# Altium footprint library Spectro.PcbLib: 37 footprints (part 2 of 3)
Each footprint in its own frame and in the unit in brackets; x right, y up, seen from the top. Pads: shape width x height; smd on the part's side, far side on the other; paste and mask are expansions set on the pad; w line width, h text height; cw(c..) or ccw(c..) is an arc to the next point about the centre after c.
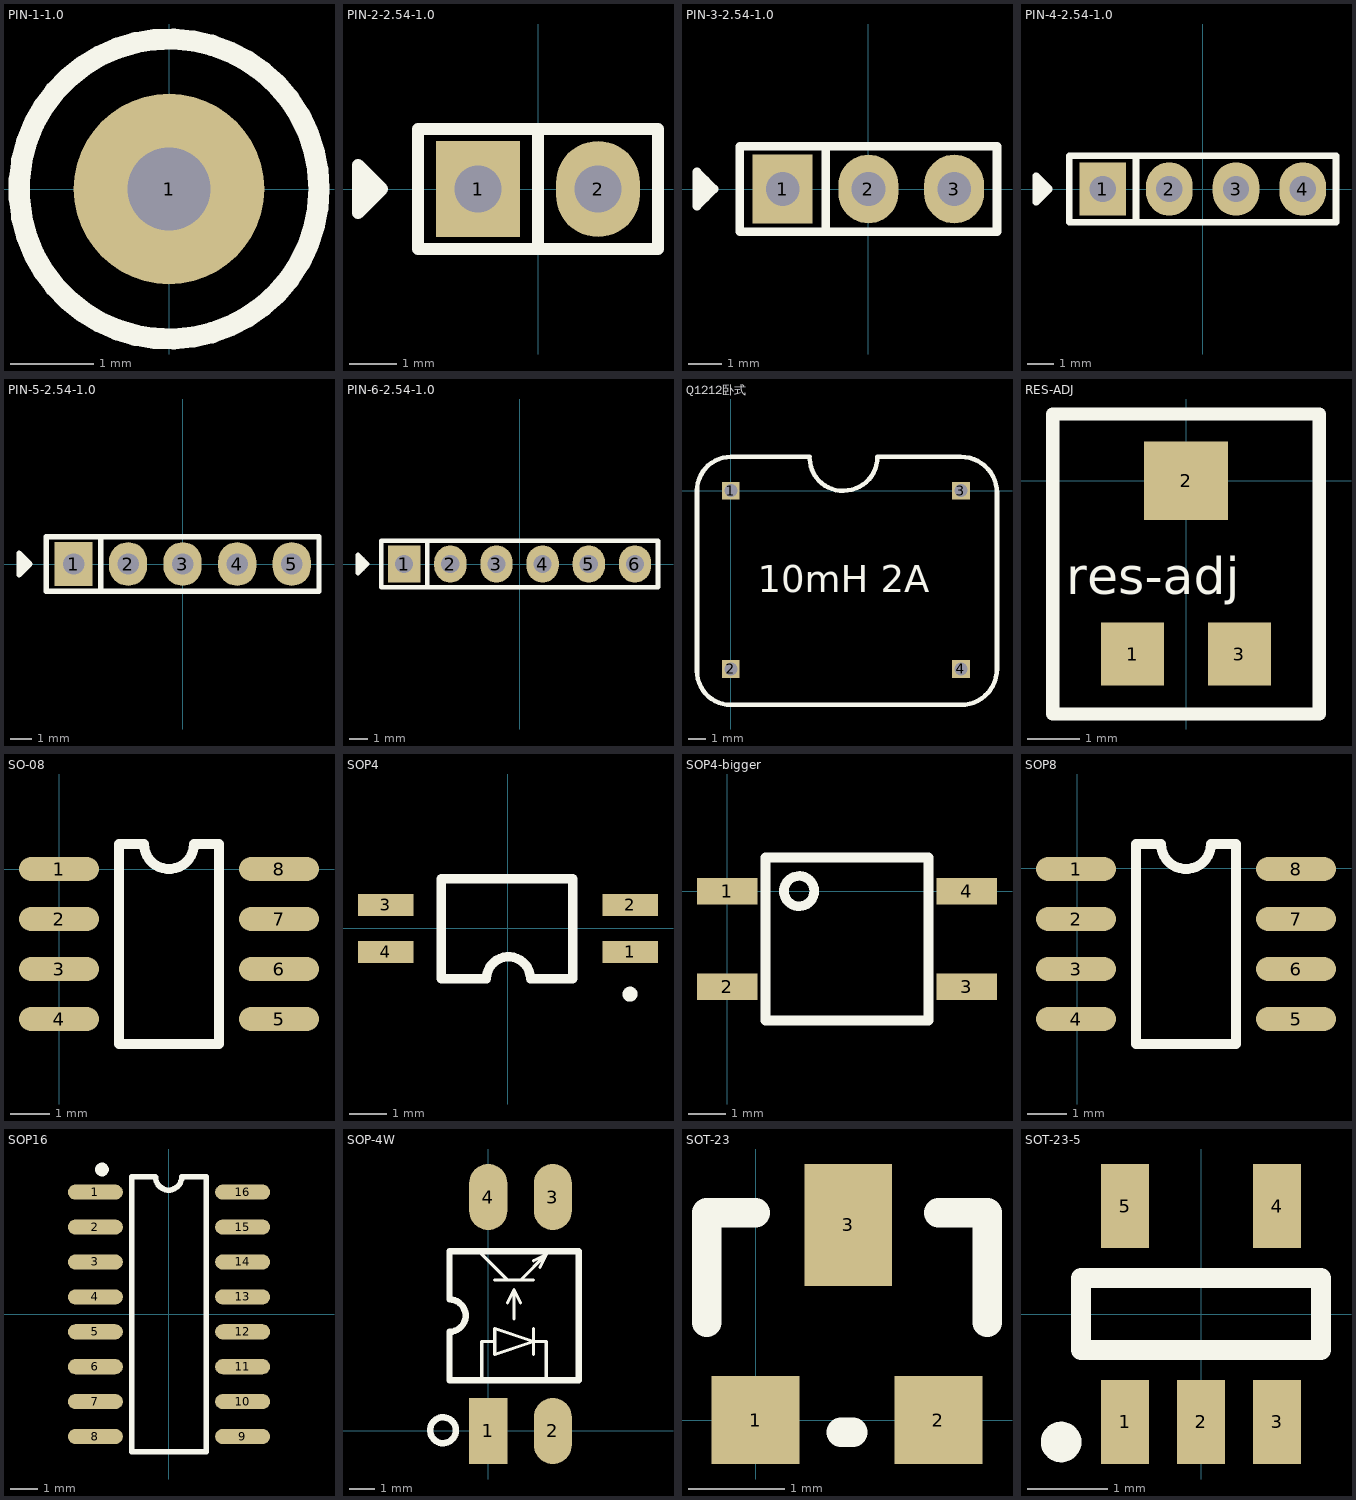
[diagram p1: the footprints below, top view; thin cyan lines are the x and y axes]

## PIN-1-1.0 [mil] "Pin Header"
height 374.02
pads (1):
  round 90 hole 39.37: 1(0,0)
Top Overlay:
  circle w10: c0,0 r70.87
3D body "PIN1.STEP": height 397.64, standoff -59.06, extent -50,-50 50,50

## PIN-2-2.54-1.0 [mil] "Pin Header"
height 374.02
pads (2):
  rect 70x80 hole 39.37: 1(-50,0)
  oval 70x80 hole 39.37: 2(50,0)
Top Overlay:
  lines w10: -140,-10 -140,10 ; 0,-50 0,50 ; -150,-20 -130,0 -150,20 -150,-20 ; -100,-50 100,-50 100,50 -100,50 -100,-50
3D body "PIN2_100mils.STEP": height 397.64, standoff -59.06, extent -100,-50 100,50

## PIN-3-2.54-1.0 [mil] "Pin Header"
height 374.02
pads (3):
  rect 70x80 hole 39.37: 1(-100,0)
  oval 70x80 hole 39.37: 2(0,0) 3(100,0)
Top Overlay:
  lines w10: -190,-10 -190,10 ; -50,-50 -50,50 ; -200,-20 -200,20 -180,0 -200,-20 ; -150,-50 150,-50 150,50 -150,50 -150,-50
3D body "PIN3_100mils.STEP": height 397.64, standoff -59.06, extent -150,-50 150,50

## PIN-4-2.54-1.0 [mil] "Pin Header"
height 374.02
pads (4):
  rect 70x80 hole 39.37: 1(-150,0)
  oval 70x80 hole 39.37: 2(-50,0) 3(50,0) 4(150,0)
Top Overlay:
  lines w10: -240,-10 -240,10 ; -100,-50 -100,50 ; -250,-20 -230,0 -250,20 -250,-20 ; -200,-50 200,-50 200,50 -200,50 -200,-50
3D body "PIN4_100mils.STEP": height 397.64, standoff -59.06, extent -200,-50 200,50

## PIN-5-2.54-1.0 [mil] "Pin Header"
height 374.02
pads (5):
  rect 70x80 hole 39.37: 1(-200,0)
  oval 70x80 hole 39.37: 2(-100,0) 3(0,0) 4(100,0) 5(200,0)
Top Overlay:
  lines w10: -290,-10 -290,10 ; -150,-50 -150,50 ; -300,-20 -280,0 -300,20 -300,-20 ; -250,-50 -250,50 250,50 250,-50 -250,-50
3D body "PIN5_100mils.STEP": height 397.64, standoff -59.06, extent -250,-50 250,50

## PIN-6-2.54-1.0 [mil] "Pin Header"
height 374.02
pads (6):
  rect 70x80 hole 39.37: 1(-250,0)
  oval 70x80 hole 39.37: 2(-150,0) 3(-50,0) 4(50,0) 5(150,0) 6(250,0)
Top Overlay:
  lines w10: -340,-10 -340,10 ; -200,-50 -200,50 ; -350,-20 -350,20 -330,0 -350,-20 ; -300,-50 -300,50 300,50 300,-50 -300,-50
3D body "PIN6_100mils.STEP": height 397.64, standoff -59.06, extent -300,-50 300,50

## Q1212卧式 [mm] "电感10mH 2A"
height 11
pads (4):
  rect 1x1 hole 0.73 square: 1(0,0) 2(0,-10.033) 3(12.954,0) 4(12.954,-10.033)
Top Overlay:
  lines w0.254: 4.445,1.778 ccw(c6.286,1.841) 6.35,0 ccw(c6.35,1.905) 8.255,1.905 12.954,1.905 cw(c12.954,-0.127) 14.986,-0.127 14.986,-10.033 cw(c12.954,-10.033) 12.954,-12.065 0,-12.065 cw(c0,-10.16) -1.905,-10.16 -1.905,0 cw(c0,0) 0,1.905 4.445,1.905
  text "10mH 2A" at 1.524,-5.715 h1.52

## RES-ADJ [mm]
pads (3):
  rect 1.2x1.2 smd: 1(-1.016,-3.302) 3(1.016,-3.302)
  rect 1.6x1.5 smd: 2(0,0)
Top Overlay:
  lines w0.254: -2.54,-4.445 -2.54,1.27 2.54,1.27 2.54,-4.445 -2.54,-4.445
  text "res-adj" at -2.286,-2.159 h0.7

## SO-08 [mil]
pads (8):
  oval 80x24 smd: 1(0,0) 2(0,-50) 3(0,-100) 4(0,-150) 5(220,-150) 6(220,-100) 7(220,-50) 8(220,0)
Top Overlay:
  lines w10: 60,-175 60,25 85,25 ccw(c110,25) 135,25 160,25 160,-175 60,-175

## SOP4 [mm] "间距1.27mm     封装库来自淘宝卖家 ID：黄晶宝石"
pads (4):
  rect 1.5x0.6 smd: 1(3.31,-0.635) 2(3.31,0.635) 3(-3.309,0.635) 4(-3.309,-0.635)
Top Overlay:
  circle w0.203: c3.302,-1.778 r0.102
  lines w0.254: -1.805,-1.361 -1.805,1.346 ; -1.794,-1.361 -0.582,-1.361 cw(c0.013,-1.361) 0.608,-1.361 1.751,-1.361 1.751,1.346 -1.786,1.346
3D body "SOP-4-1.STEP": height 2.1, standoff 0, extent -3.5,-1.4 3.5,1.4

## SOP4-bigger [mm] "EL357"
height 2.6
pads (4):
  rect 1.6x0.7 smd: 1(0,0) 2(0,-2.54) 3(6.35,-2.54) 4(6.35,0)
Top Overlay:
  circle w0.254: c1.905,0 r0.402
  lines w0.254: 1.016,-3.429 5.334,-3.429 5.334,0.889 1.016,0.889 1.016,-1.27 1.016,-3.429

## SOP8 [mil] "封装库来自淘宝卖家 ID：黄晶宝石"
pads (8):
  oval 80x24 smd: 1(-1,-1) 2(-1,-51) 3(-1,-101) 4(-1,-151) 5(219,-151) 6(219,-101) 7(219,-51) 8(219,-1)
Top Overlay:
  lines w10: 59,-176 159,-176 159,24 134,24 cw(c109,24) 84,24 59,24 59,-176
3D body "SOP8.STEP": height 62.99, standoff 0, extent -3.93,-173.82 233.94,23.82

## SOP16 [mm] "封装库来自淘宝卖家 ID：黄晶宝石"
height 1.75
pads (16):
  oval 2x0.55 smd: 1(-2.667,4.445) 2(-2.667,3.175) 3(-2.667,1.905) 4(-2.667,0.635) 5(-2.667,-0.635) 6(-2.667,-1.905) 7(-2.667,-3.175) 8(-2.667,-4.445) 9(2.692,-4.445) 10(2.692,-3.175) 11(2.692,-1.905) 12(2.692,-0.635) 13(2.692,0.635) 14(2.692,1.905) 15(2.692,3.175) 16(2.692,4.445)
Top Overlay:
  circle w0.25: c-2.425,5.27 r0.125
  lines w0.2: -0.483,5 -1.346,5 -1.346,-5 1.372,-5 1.372,5 0.475,5 ; -0.475,4.997 ccw(c0,4.996) 0.475,4.997
3D body "SO-16.STEP": height 1.45, standoff 0, extent -2.921,-4.991 2.984,4.991

## SOP-4W [mm]
pads (4):
  rect 1.5x2.6 smd: 1(0,0)
  oval 1.5x2.6 smd: 2(2.54,0) 3(2.54,9.2) 4(0,9.2)
Top Overlay:
  circle w0.254: c-1.778,0.028 r0.508
  lines w0.127: -0.254,1.996 -0.254,3.52 0.254,3.52 ; -0.254,6.949 0.762,5.933 ; 0.254,5.933 1.778,5.933 ; 0.762,5.044 1.016,5.552 ; 1.016,4.409 1.016,5.552 ; 1.27,5.044 1.016,5.552 ; 1.27,5.933 2.286,6.949 ; 1.778,3.012 1.778,4.028 ; 1.778,6.695 2.286,6.949 ; 2.032,6.441 2.286,6.949 ; 2.286,1.996 2.286,3.52 1.778,3.52 ; 1.778,3.52 0.254,3.012 0.254,4.028 1.778,3.52
  lines w0.254: -1.524,1.996 3.556,1.996 3.556,7.076 -1.524,7.076 -1.524,5.171 cw(c-1.524,4.536) -1.524,3.901 -1.524,1.996

## SOT-23 [mil]
pads (3):
  rect 36x36 smd: 1(0,0) 2(75,0)
  rect 36x50 smd: 3(38,80)
Top Overlay:
  lines w12: -20,40 -20,85 0,85 ; 35,-5 40,-5 ; 75,85 95,85 95,40

## SOT-23-5 [mm] "SOT-23-5"
height 1.2
pads (5):
  rect 0.6x1.05 smd: 1(-0.95,-1.35) 2(0,-1.35) 3(0.95,-1.35) 4(0.95,1.35) 5(-0.95,1.35)
Top Overlay:
  circle w0.254: c-1.75,-1.6 r0.127
  lines w0.254: -1.5,-0.45 -1.5,0.45 1.5,0.45 1.5,-0.45 -1.5,-0.45
3D body "SOT-23-5.STEP": height 1.3, standoff 0, extent -1.5,-1.5 1.5,1.5